# Altium integrated library CW313_20pinToTarget.IntLib: 22 symbols
Pins are listed as number, name and electrical type; pins without a type are passive.

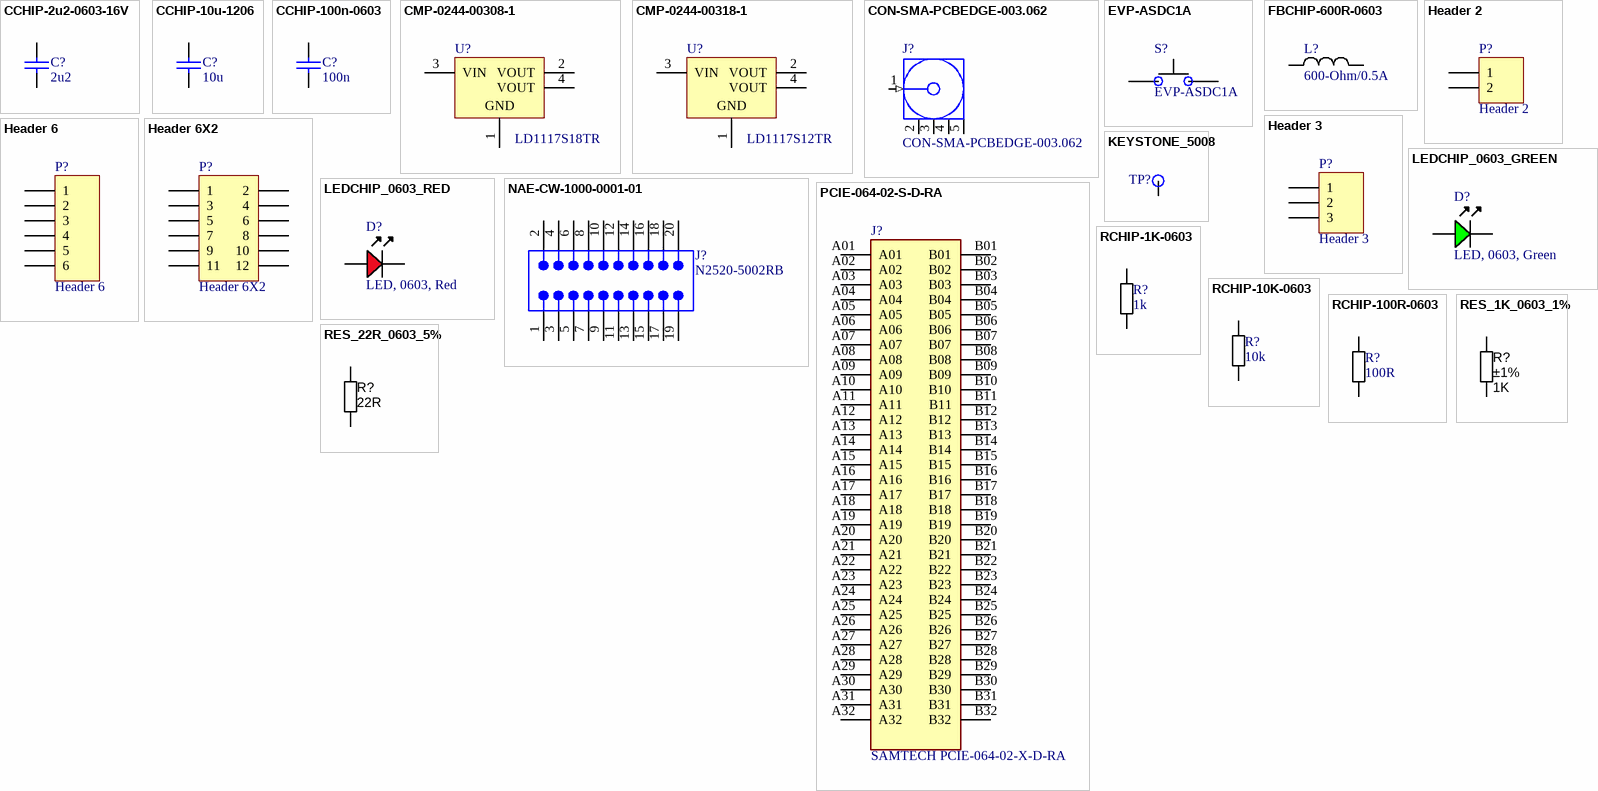
[diagram p0: symbols CCHIP-2u2-0603-16V to RES_22R_0603_5%]

## CCHIP-2u2-0603-16V
designator C?, comment 2u2
2u2, 0603; Part Number: CCHIP-2u2-0603-16V; Manufacture 1: Taiyo Yuden; Manufacture Part Number 1: EMK107BJ225KA-T; Component Group: Capacitor; Case-EIA: 0603; Case-Metric: 1608; Rated Voltage: 16VDC; Footprint: 0603; Pin Count: 2; Supplier 1: Digi-Key; Supplier Part Number 1: 587-1430-1-ND; Value: 2u2; Mounting Technology: SMT; Component Kind: Standard; Component Type: Standard
footprint CAPC0603_M
pins: 1, 2

## CCHIP-10u-1206
designator C?, comment 10u
CAP CER 10UF 25V X7R 1206; Part Number: CCHIP-10u-1206; Manufacture 1: Taiyo Yuden; Manufacture Part Number 1: TMK316AB7106KL-T; Component Group: Capacitor; Case-EIA: 1206; Case-Metric: 3216; Footprint: 1206; Pin Count: 2; Supplier 1: Digi-Key; Supplier Part Number 1: 587-3486-1-ND; Value: 10u; Mounting Technology: SMT; Component Kind: Standard; Component Type: Standard
footprint CAPC1206_M
pins: 1, 2

## CCHIP-100n-0603
designator C?, comment 100n
100n, 0603; Part Number: CCHIP-100n-0603; Manufacture 1: Kemet; Manufacture Part Number 1: C0603C104K5RACTU; Component Group: Capacitor; Case-EIA: 0603; Case-Metric: 1608; Rated Voltage: 50VDC; Footprint: 0603; Pin Count: 2; Supplier 1: Digi-Key; Supplier Part Number 1: 399-5089-2-ND; Value: 100n; Mounting Technology: SMT; Component Kind: Standard; Component Type: Standard
footprint CAPC0603_M
pins: 1, 2

## CMP-0244-00308-1
designator U?, comment LD1117S18TR
Fixed Low Drop Positive Voltage Regulator, 1.8V, 4-Pin SOT-223, Tape and Reel; Manufacturer: STMicroelectronics; ComponentLink1URL: http://www.st.com; PackageReference: SOT-223; PackageDescription: 4-Pin SOT-223 Package, 6.5 x 3.5 mm Body, 2.3 mm Pitch, 7 mm Lead Span; ComponentLink2URL: http://www.st.com/internet/com/TECHNICAL_RESOURCES/TECHNICAL_LITERATURE/DATASHEET/CD00000544.pdf; ComponentLink2Description: Datasheet; ComponentLink1Description: Manufacturer URL; DatasheetVersion: 1/11/2011; PackageVersion: 2010; Supplier 1: Digi-Key; Supplier Part Number 1: 497-7308-1-ND; Manufacturer Part Number: LD1117S18TR
footprint SOT-223_M (SOT223, 4-Leads, Body 6.5x3.5mm, Pitch 2.3mm, Lead Span 7mm, IPC Low Density)
footprint SOT-223_N (SOT223, 4-Leads, Body 6.5x3.5mm, Pitch 2.3mm, Lead Span 7mm, IPC Medium Density)
footprint SOT-223_L (SOT223, 4-Leads, Body 6.5x3.5mm, Pitch 2.3mm, Lead Span 7mm, IPC High Density)
pins: 1 GND (power), 2 VOUT (power), 3 VIN (power), 4 VOUT (power)

## CMP-0244-00318-1
designator U?, comment LD1117S12TR
Fixed Low Drop Positive Voltage Regulator, 1.2V, 4-Pin SOT-223, Tape and Reel; Manufacturer: STMicroelectronics; PackageDescription: 4-Pin SOT-223 Package, 6.5 x 3.5 mm Body, 2.3 mm Pitch, 7 mm Lead Span; PackageVersion: 2010; ComponentLink2Description: Datasheet; PackageReference: SOT-223; ComponentLink2URL: http://www.st.com/internet/com/TECHNICAL_RESOURCES/TECHNICAL_LITERATURE/DATASHEET/CD00000544.pdf; ComponentLink1Description: Manufacturer URL; DatasheetVersion: 1/11/2011; ComponentLink1URL: http://www.st.com; Supplier 1: Digi-Key; Supplier Part Number 1: 497-4240-1-ND; Manufacturer Part Number: LD1117S12TR
footprint SOT-223_M (SOT223, 4-Leads, Body 6.5x3.5mm, Pitch 2.3mm, Lead Span 7mm, IPC Low Density)
footprint SOT-223_N (SOT223, 4-Leads, Body 6.5x3.5mm, Pitch 2.3mm, Lead Span 7mm, IPC Medium Density)
footprint SOT-223_L (SOT223, 4-Leads, Body 6.5x3.5mm, Pitch 2.3mm, Lead Span 7mm, IPC High Density)
pins: 1 GND (power), 2 VOUT (power), 3 VIN (power), 4 VOUT (power)

## CON-SMA-PCBEDGE-003.062
designator J?
SMA Female Edge Mount Connector for 0.062" Thick Board; Part Number: CON-SMA-PCBEDGE-003.062; Component Group: Connector; Footprint: CON-SMAM-PCB-EDGE062; Pin Count: 5; ComponentLink1Description: Manufacturer URL; ComponentLink1URL: http://www.linxtechnologies.com/; ComponentLink2Description: Datasheet; ComponentLink2URL: http://www.connectorcity.com/diagrams/SMA/CONSMA003.062.pdf; Component Kind: Standard; Component Type: Standard
footprint CON-SMAM-PCB-EDGE062
pins: 1 Signal (in) "Signal Pin", 2 GND (power), 3 GND (power), 4 GND (power), 5 GND (power)

## EVP-ASDC1A
designator S?
Pushbutton, SMD, 2.5NM force, NO; Manufacture 1: Panasonic; Component Group: Switch; Rated Power: 0.1W; Rated Voltage: 75VDC; Part Number: EVP-ASDC1A; Footprint: EVPAS; Manufacture Part Number 1: EVP-ASDC1A; Pin Count: 2; Supplier 1: Digi-Key; Supplier Part Number 1: P16856CT-ND; Mounting Technology: SMT; Component Kind: Standard; Component Type: Standard
footprint EVPAS
pins: 1 IN, 2 IN

## FBCHIP-600R-0603
designator L?, comment 600-Ohm/0.5A
600 Ohm @ 100 MHz, 0.5A rated FB; Part Number: FBCHIP-600R-0603; Manufacture 1: Murata Electronics; Manufacture Part Number 1: BLM18AG601SN1D; Component Group: Inductor; Value: 600R/0.5A; Case-EIA: 0603; Case-Metric: 1608; PP Material Stack: 0; Footprint: 0603; Pin Count: 2; Supplier 1: Digi-Key; Supplier Part Number 1: 490-1014-2-ND; Rated Power: 0.5A; Component Kind: Standard; Component Type: Standard; PP Rotation: 0
footprint IND_0603
pins: 1, 2

## Header 2
designator P?
Header, 2-Pin; LatestRevisionDate: 17-Jul-2002; LatestRevisionNote: Re-released for DXP Platform.; Publisher: Altium Limited
footprint HDR1X2 (Connector; Header; 2 Position)
signal-integrity model Connector
pins: 1, 2

## Header 3
designator P?
Header, 3-Pin; LatestRevisionDate: 17-Jul-2002; LatestRevisionNote: Re-released for DXP Platform.; Publisher: Altium Limited
footprint HDR1X3 (Connector; Header; 3 Position)
signal-integrity model Connector
pins: 1, 2, 3

## Header 6
designator P?
Header, 6-Pin; LatestRevisionDate: 17-Jul-2002; LatestRevisionNote: Re-released for DXP Platform.; Publisher: Altium Limited
footprint HDR1X6 (Connector; Header; 6 Position)
signal-integrity model Connector
pins: 1, 2, 3, 4, 5, 6

## Header 6X2
designator P?
Header, 6-Pin, Dual row; LatestRevisionDate: 17-Jul-2002; LatestRevisionNote: Re-released for DXP Platform.; Publisher: Altium Limited
footprint HDR2X6 (Connector; Header; 6x2 Position)
signal-integrity model Connector
pins: 1, 2, 3, 4, 5, 6, 7, 8, 9, 10, 11, 12

## KEYSTONE_5008
designator TP?, comment 5008  (value not drawn)
TEST POINT PC COMPACT .063"D ORG; Supplier 1: Digi-Key; Supplier Part Number 1: 36-5008-ND
footprint KEYSTONE5008 (TEST POINT PC MULTI PURPOSE ORG)
pins: 1

## LEDCHIP_0603_GREEN
designator D?, comment LED, 0603, Green
Chip LED, Green; Part Number: LEDCHIP_0603_GREEN; Manufacture 1: Kingbright; Manufacture Part Number 1: APT1608CGCK; Component Group: Optical; PP Material Stack: 16; PP Rotation: -90; Footprint: LED-0603-GREEN; Pin Count: 2; Supplier 1: Digi-Key; Supplier Part Number 1: 754-1116-1-ND; Mounting Technology: SMT; Component Kind: Standard; Component Type: Standard
footprint LED-0603-GREEN
pins: A, K

## LEDCHIP_0603_RED
designator D?, comment LED, 0603, Red
Chip LED, Red; Part Number: LEDCHIP_0603_RED; Manufacture 1: Kingbright; Manufacture Part Number 1: APT1608SRCPRV; Component Group: Optical; PP Material Stack: 15; PP Rotation: -90; Footprint: LED-0603-RED; Pin Count: 2; Supplier 1: Digi-Key; Supplier Part Number 1: 754-1122-1-ND; Mounting Technology: SMT; Component Kind: Standard; Component Type: Standard
footprint LED-0603-RED
pins: A, K

## NAE-CW-1000-0001-01
designator J?, comment N2520-5002RB
20 Pin R/A Shrouded Header; Manufacturer: 3M; Pitch: 2.54 mm; PackageReference: N2520-5002RB; PackageDescription: .100[2.54] High Temp Terminal Body (Board Stacking); Orientation: Vertical; RoHS: True; Temperature Range: -55 to 125 degC; Mounting Technology: Through-hole; PartNumber: N2520-5002RB; Supplier 1: Digi-Key; Supplier Part Number 1: MHE20K-ND
footprint NAE-PCB-CW-1000-0001-01 (High Temp Terminal Body, 2x10 Pins, R/A, 2.54mm Pitch, Male)
signal-integrity model Guessed Model (Connector Model Details Guessed by Setup Helper)
pins: 1, 2, 3, 4, 5, 6, 7, 8, 9, 10, 11, 12, 13, 14, 15, 16, 17, 18, 19, 20

## PCIE-064-02-S-D-RA
designator J?, comment SAMTECH PCIE-064-02-X-D-RA
1.00 mm PCI Express Edge Card Connector (Thick Gold); Part Number: PCIE-064-02-S-D-RA; MF: Samtec; PP Material Stack: 0; Package: None; Value: *; Availability: Unavailable; MP: PCIE-064-02-X-D-RA; Price: None; Component Group: Connector; Footprint: PCIE-064-02-X-D-RA; Manufacture 1: Samtech; Manufacture Part Number 1: PCIE-064-02-X-D-RA; Pin Count: 64; Supplier 1: Mouser; Mounting Technology: Through-hole; RoHS: Yes; Component Kind: Standard; Component Type: Standard; PP Rotation: 0; PP Rotation1: 0
footprint SAMTEC_PCIE-064-02-X-D-RA
pins: A01, A02, A03, A04, A05, A06, A07, A08, A09, A10, A11, A12, A13, A14, A15, A16, A17, A18, A19, A20, A21, A22, A23, A24, A25, A26, A27, A28, A29, A30, A31, A32, B01, B02, B03, B04, B05, B06, B07, B08, B09, B10, B11, B12, B13, B14, B15, B16, B17, B18, B19, B20, B21, B22, B23, B24, B25, B26, B27, B28, B29, B30, B31, B32

## RCHIP-1K-0603
designator R?, comment 1k
1k res, 0603, 1%, 1/10W; Part Number: RCHIP-1K-0603; Manufacture 1: Yageo; Manufacture Part Number 1: RC0603FR-071KL; Component Group: Resistor; Case-EIA: 0603; Case-Metric: 1608; Rated Power: 0.1W; Rated Voltage: 75VDC; Footprint: 0603; Pin Count: 2; Supplier 1: Digi-Key; Supplier Part Number 1: 311-1.00KHRCT-ND; Value: 1k; Tolerance: 1%; Mounting Technology: SMT; Temperature Range: -55C to 155C; Component Kind: Standard; Component Type: Standard
footprint RESC1608X55N
pins: 1, 2

## RCHIP-10K-0603
designator R?, comment 10k
10k res, 0603, 1%, 1/10W; Part Number: RCHIP-10K-0603; Manufacture 1: Yageo; Manufacture Part Number 1: RC0603FR-0710KL; Component Group: Resistor; Case-EIA: 0603; Case-Metric: 1608; Rated Power: 0.1W; Rated Voltage: 75VDC; Footprint: 0603; Pin Count: 2; Supplier 1: Digi-Key; Supplier Part Number 1: 311-10.0KHRCT-ND; Value: 10k; Tolerance: 1%; Mounting Technology: SMT; Temperature Range: -55C to 155C; Component Kind: Standard; Component Type: Standard
footprint RESC1608X55N
pins: 1, 2

## RCHIP-100R-0603
designator R?, comment 100R
100R res, 0603, 1%, 1/10W; Part Number: RCHIP-100R-0603; Manufacture 1: Yageo; Manufacture Part Number 1: RC0603FR-07100RL; Component Group: Resistor; Case-EIA: 0603; Case-Metric: 1608; Rated Power: 0.1W; Rated Voltage: 75VDC; Footprint: 0603; Pin Count: 2; Supplier 1: Digi-Key; Supplier Part Number 1: 311-100HRCT-ND; Value: 100R; Tolerance: 1%; Mounting Technology: SMT; Temperature Range: -55C to 155C; Component Kind: Standard; Component Type: Standard
footprint RESC1608X55N
pins: 1, 2

## RES_1K_0603_1%
designator R?, comment value 1K  Tolerance: ±1%  (hidden comment: Thick Film)
Resistor SMD chip 1k Ohm 0.1W 1% 0603; Manufacturer 1: Yageo; Manufacturer Part Number 1: RC0603FR-071KL; Ratings: 1/10W; SCDType: spec; Package / Case: 0603 (1608 Metric); Supplier 1: Digi-Key; Supplier Part Number 1: 311-1.00KHRCT-ND
footprint RESC1608X55N (Chip Resistor, Body 1.6x0.8mm, 0603, IPC Medium Density)
pins: 1, 2

## RES_22R_0603_5%
designator R?, comment value 22R  (hidden comment: Thick Film)
Resistor SMD chip 22 Ohm 0.1W 5% 0603; Manufacturer 1: Yageo; Manufacturer Part Number 1: RC0603JR-0722RL; Ratings: 1/10W; SCDType: spec; Temperature Coefficient: ±100ppm/°C; Tolerance: ±5%; Package / Case: 0603 (1608 metric); Case: 0603 (1608 metric); Supplier 1: Digi-Key; Supplier Part Number 1: 311-22GRCT-ND; RoHS 1: RoHS Compliant; ComponentLink1URL: http://www.yageo.com/documents/recent/PYu-RC0603_51_RoHS_L_4.pdf; ComponentLink1Description: http://www.yageo.com/documents/recent/PYu-RC0603_51_RoHS_L_4.pdf; Supplier 2: Digi-Key; Supplier Part Number 2: 1276-5022-6-ND; Manufacturer 2: Samsung Electro-Mechanics America, Inc; Manufacturer Part Number 2: RC1608J220CS; RoHS 2: RoHS Compliant; ComponentLink2URL: http://www.samsungsem.com/servlet/FileDownload?filename=productcatalog/pdf/Chip_Resistor.pdf; ComponentLink2Description: http://www.samsungsem.com/servlet/FileDownload?filename=productcatalog/pdf/Chip_Resistor.pdf; Supplier 3: Digi-Key; Supplier Part Number 3: RMCF0603JT22R0DKR-ND; Manufacturer 3: Stackpole Electronics Inc; Manufacturer Part Number 3: RMCF0603JT22R0; RoHS 3: RoHS Compliant; ComponentLink3URL: http://www.seielect.com/Catalog/SEI-RMCF_RMCP.pdf; ComponentLink3Description: http://www.seielect.com/Catalog/SEI-RMCF_RMCP.pdf; Supplier 4: Digi-Key; Supplier Part Number 4: RHM22CGDKR-ND; Manufacturer 4: Rohm Semiconductor; Manufacturer Part Number 4: MCR03ERTJ220; RoHS 4: RoHS Compliant; ComponentLink4URL: http://rohmfs.rohm.com/en/products/databook/datasheet/passive/resistor/chip_resistor/mcr_g.pdf; ComponentLink4Description: http://rohmfs.rohm.com/en/products/databook/datasheet/passive/resistor/chip_resistor/mcr_g.pdf; Supplier 5: Digi-Key; Supplier Part Number 5: P22GDKR-ND; Manufacturer 5: Panasonic Electronic Components; Manufacturer Part Number 5: ERJ-3GEYJ220V; RoHS 5: RoHS Compliant; ComponentLink5URL: http://industrial.panasonic.com/www-cgi/jvcr13pz.cgi?E+PZ+3+AOA0001+ERJ3GEYJ220V+7+WW; ComponentLink5Description: http://industrial.panasonic.com/www-cgi/jvcr13pz.cgi?E+PZ+3+AOA0001+ERJ3GEYJ220V+7+WW
footprint RESC1608X55N (Chip Resistor, Body 1.6x0.8mm, 0603, IPC Medium Density)
pins: 1, 2